# EAGLE library part ALPS_SKSGPAE010 (library eload_powermeter)
6.2 X 6.5mm TACT Switch (SMD) Source: http://www3.alps.co.jp/WebObjects/catalog.woa/PDF/E/Switch/Tact/SKHM/SKHM.PDF
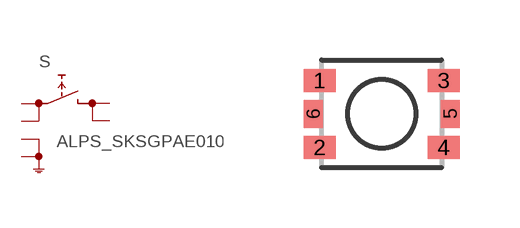
[diagram p5: symbol with the pads of SKHMPXE010; footprint SKHMPXE010]

Designator prefix S

## ALPS_SKSGPAE010S, ALPS_SKSGPAE010U, ALPS_SKSGPAE010W  [SKHMPXE010]
1  3.1  pas
2  4.1  pas
3  3.2  pas
4  4.2  pas
5  SH1  pas
6  SH2  pas

## Footprint SKHMPXE010 (pad centres in mm)
6.2 X 6.5mm TACT Switch (SMD) Source: http://www3.alps.co.jp/WebObjects/catalog.woa/PDF/E/Switch/Tact/SKHM/SKHM.PDF
smd 0.8 x 0.575: 1 -1.55,0.838; 2 -1.55,-0.838; 3 1.55,0.838; 4 1.55,-0.838
smd 0.485 x 0.7: 5 1.712,0; 6 -1.712,0